# EAGLE library part AP7312 (library gps_tracker)
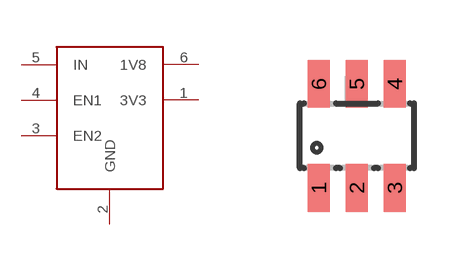
[diagram p3: symbol with the pads of SOT23-6; footprint SOT23-6]

Designator prefix U

## AP7312  [SOT23-6]
1  3V3  pwr
2  GND  pwr
3  EN2  in
4  EN1  in
5  IN  pwr
6  1V8  pwr

## Footprint SOT23-6 (pad centres in mm)
smd 0.55 x 1.2: 1 -0.95,-1.3; 2 0,-1.3; 3 0.95,-1.3; 4 0.95,1.3; 5 0,1.3; 6 -0.95,1.3